# Altium footprint library 21745072.PcbLib: 1 footprints
Each footprint in its own frame and in the unit in brackets; x right, y up, seen from the top. Pads: shape width x height; smd on the part's side, far side on the other; paste and mask are expansions set on the pad; w line width, h text height; cw(c..) or ccw(c..) is an arc to the next point about the centre after c.
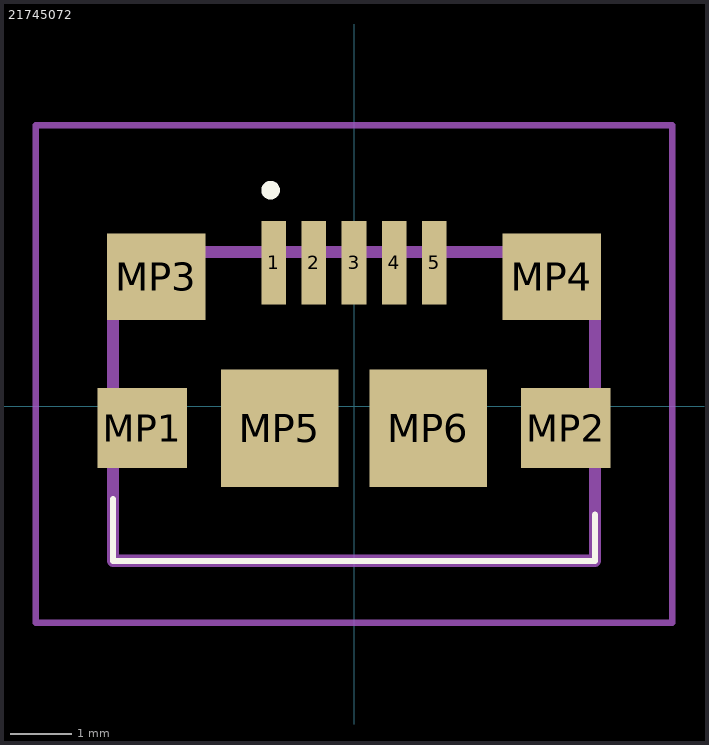
[diagram p0: the footprint, top view; thin cyan lines are the x and y axes]

## 21745072 [mm]
pads (11):
  rect 0.4x1.35 smd: 1(-1.3,2.325) 2(-0.65,2.325) 3(0,2.325) 4(0.65,2.325) 5(1.3,2.325)
  rect 1.45x1.3 smd: MP1(-3.425,-0.35) MP2(3.425,-0.35)
  rect 1.6x1.4 smd: MP3(-3.2,2.1) MP4(3.2,2.1)
  rect 1.9x1.9 smd: MP5(-1.2,-0.35) MP6(1.2,-0.35)
Top Overlay:
  lines w0.1: -3.9,-2.5 -3.9,-1.5 ; -3.9,-2.5 -3.9,-2.5 ; -3.9,-2.5 -3.9,-1.5 ; -3.9,-2.5 3.9,-2.5 ; -3.9,-2.5 3.9,-2.5 ; -3.9,-2.5 -3.9,-2.5 ; -3.9,-1.5 -3.9,-1.5 ; 3.9,-2.5 3.9,-2.5 ; 3.9,-2.5 3.9,-2.5 ; 3.9,-2.5 3.9,-1.75 ; 3.9,-2.5 3.9,-1.75 ; 3.9,-1.75 3.9,-1.75
  lines w0.2: -1.4,3.5 -1.4,3.5 ; -1.4,3.5 ccw(c-1.35,3.5) -1.3,3.5 ; -1.4,3.5 cw(c-1.35,3.5) -1.3,3.5 ; -1.4,3.5 -1.4,3.5 ; -1.4,3.5 ccw(c-1.35,3.5) -1.3,3.5 ; -1.3,3.5 -1.3,3.5
Mechanical 15:
  lines w0.2: -3.9,-2.5 3.9,-2.5 3.9,2.5 -3.9,2.5 -3.9,-2.5
Mechanical 20:
  lines w0.1: -5.15,-3.5 5.15,-3.5 5.15,4.55 -5.15,4.55 -5.15,-3.5